# Altium footprint library ChargeControl.PcbLib: 2 footprints
Each footprint in its own frame and in the unit in brackets; x right, y up, seen from the top. Pads: shape width x height; smd on the part's side, far side on the other; paste and mask are expansions set on the pad; w line width, h text height; cw(c..) or ccw(c..) is an arc to the next point about the centre after c.
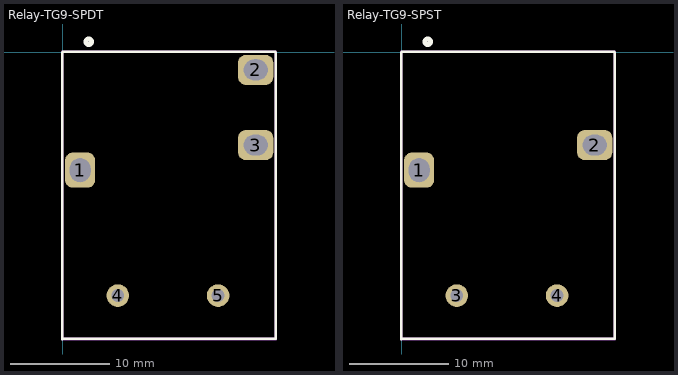
[diagram p0: the footprints below, top view; thin cyan lines are the x and y axes]

## Relay-TG9-SPDT [mil] "SPDT Relay"
pads (5):
  rrect50% 120x140 hole 94.49 slot 82.68 at 0 deg: 1(69.81,-470.01)
  rrect50% 140x120 hole 94.49 slot 82.68 at 90 deg: 2(769.81,-70.01) 3(769.81,-370.01)
  round 90 hole 51.18: 4(219.81,-970.01) 5(619.81,-970.01)
Top Overlay:
  circle w19.68: c104,42 r10.99
  lines w10: -1,-1143 -1,-1.27 ; -0.5,-1142.62 849,-1142.62 849,-2 ; 0.5,2 846.95,2
Mechanical 15:
  lines w10: -1,-1.62 -1,-1143 849,-1143 849,2 -1,2
3D body: height 290.5, standoff -488.5, extent 640.26,-549.79 640.26,-549.79
3D body "c-1558660-3-a-3d.stp": height 600.89, standoff -145.17, extent 0.74,-1136.89 843.26,0.9

## Relay-TG9-SPST [mil] "SPDT Relay"
pads (4):
  rrect50% 120x140 hole 94.49 slot 82.68 at 0 deg: 1(69.81,-470.01)
  rrect50% 140x120 hole 94.49 slot 82.68 at 90 deg: 2(769.81,-370.01)
  round 90 hole 51.18: 3(219.81,-970.01) 4(619.81,-970.01)
Top Overlay:
  circle w19.68: c104,42 r10.99
  lines w10: -1,-1143 -1,-1.27 ; -0.5,-1142.62 849,-1142.62 849,-2 ; 0.5,2 846.95,2
Mechanical 15:
  lines w10: -1,-1.62 -1,-1143 849,-1143 849,2 -1,2
3D body: height 290.5, standoff -488.5, extent 640.26,-549.79 640.26,-549.79
3D body "c-1558666-3-b-3d.stp": height 600.89, standoff -145.17, extent 3.73,-1138.9 846.25,-1.1